# EAGLE library part LT1001 (library SquantorLinearTechnology)
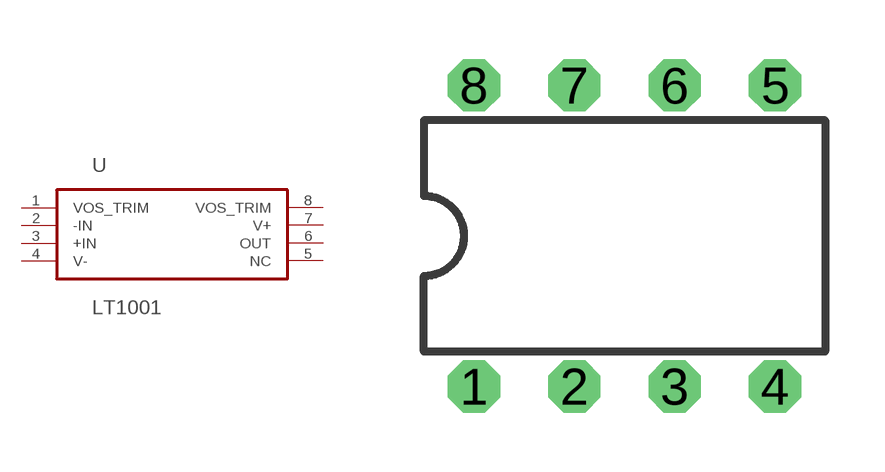
[diagram p3: symbol with the pads of N8-PDIP8; footprint N8-PDIP8]

Designator prefix -

## LT1001  [N8-PDIP8]
1  VOS_TRIM
2  -IN
3  +IN
4  V-
5  NC
6  OUT
7  V+
8  VOS_TRIM

## Footprint N8-PDIP8 (pad centres in mm)
drill 0.813 octagon: 1 -3.81,-3.81; 2 -1.27,-3.81; 3 1.27,-3.81; 4 3.81,-3.81; 5 3.81,3.81; 6 1.27,3.81; 7 -1.27,3.81; 8 -3.81,3.81